# EAGLE library part MODULO_CORTEX_M0 (library MODULO_CORTEX)
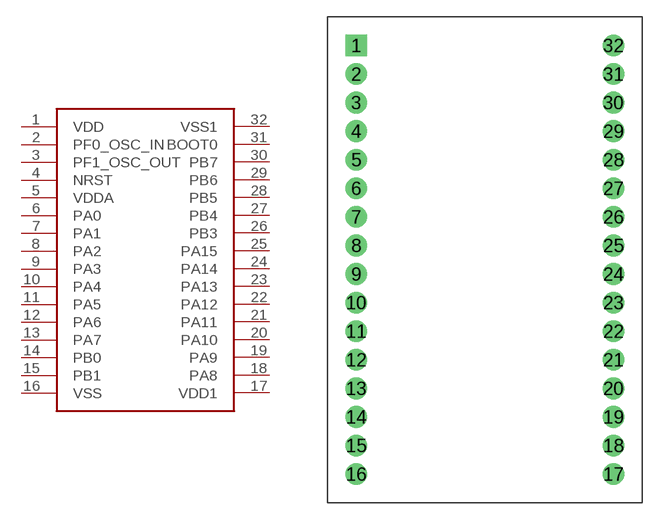
[diagram p0: symbol with the pads of MODULO_CORTEX_M0; footprint MODULO_CORTEX_M0]

Designator prefix -

## MODULO_CORTEX_M0  [MODULO_CORTEX_M0]
1  VDD
2  PF0_OSC_IN
3  PF1_OSC_OUT
4  NRST
5  VDDA
6  PA0
7  PA1
8  PA2
9  PA3
10  PA4
11  PA5
12  PA6
13  PA7
14  PB0
15  PB1
16  VSS
17  VDD1
18  PA8
19  PA9
20  PA10
21  PA11
22  PA12
23  PA13
24  PA14
25  PA15
26  PB3
27  PB4
28  PB5
29  PB6
30  PB7
31  BOOT0
32  VSS1

## Footprint MODULO_CORTEX_M0 (pad centres in mm)
drill 1 pad 1.93 square: 1 -22.86,-2.54
drill 1 pad 1.93: 2 -22.86,-5.08; 3 -22.86,-7.62; 4 -22.86,-10.16; 5 -22.86,-12.7; 6 -22.86,-15.24; 7 -22.86,-17.78; 8 -22.86,-20.32; 9 -22.86,-22.86; 10 -22.86,-25.4; 11 -22.86,-27.94; 12 -22.86,-30.48; 13 -22.86,-33.02; 14 -22.86,-35.56; 15 -22.86,-38.1; 16 -22.86,-40.64; 17 0,-40.64; 18 0,-38.1; 19 0,-35.56; 20 0,-33.02; 21 0,-30.48; 22 0,-27.94; 23 0,-25.4; 24 0,-22.86; 25 0,-20.32; 26 0,-17.78; 27 0,-15.24; 28 0,-12.7; 29 0,-10.16; 30 0,-7.62; 31 0,-5.08; 32 0,-2.54